# Altium footprint library TSOP54.PcbLib: 1 footprints
Each footprint in its own frame and in the unit in brackets; x right, y up, seen from the top. Pads: shape width x height; smd on the part's side, far side on the other; paste and mask are expansions set on the pad; w line width, h text height; cw(c..) or ccw(c..) is an arc to the next point about the centre after c.
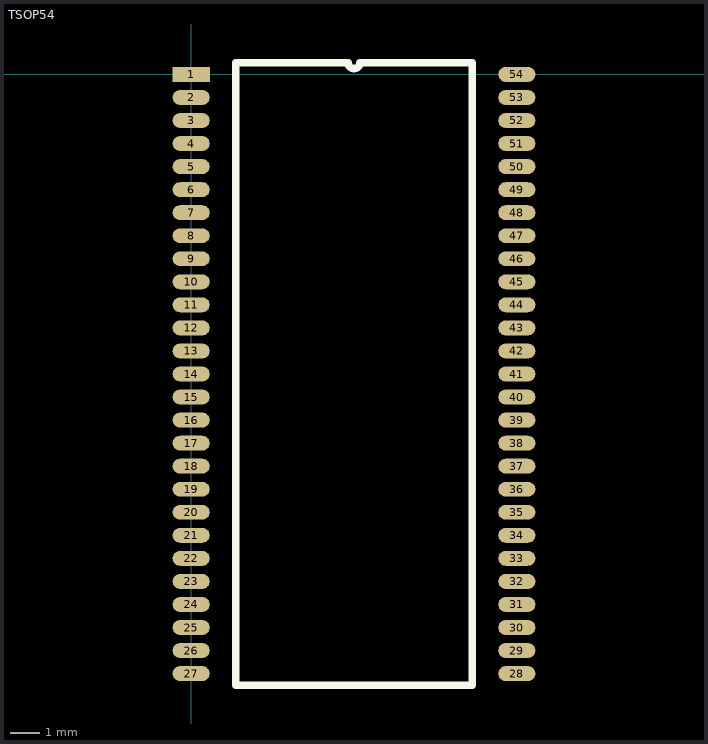
[diagram p0: the footprint, top view; thin cyan lines are the x and y axes]

## TSOP54 [mil]
pads (54):
  rect 50x20 smd: 1(0,0)
  oval 50x20 smd: 2(0,-31) 3(0,-62) 4(0,-93) 5(0,-124) 6(0,-155) 7(0,-186) 8(0,-217) 9(0,-248) 10(0,-279) 11(0,-310) 12(0,-341) 13(0,-372) 14(0,-403) 15(0,-434) 16(0,-465) 17(0,-496) 18(0,-527) 19(0,-558) 20(0,-589) 21(0,-620) 22(0,-651) 23(0,-682) 24(0,-713) 25(0,-744) 26(0,-775) 27(0,-806) 28(438,-806) 29(438,-775) 30(438,-744) 31(438,-713) 32(438,-682) 33(438,-651) 34(438,-620) 35(438,-589) 36(438,-558) 37(438,-527) 38(438,-496) 39(438,-465) 40(438,-434) 41(438,-403) 42(438,-372) 43(438,-341) 44(438,-310) 45(438,-279) 46(438,-248) 47(438,-217) 48(438,-186) 49(438,-155) 50(438,-124) 51(438,-93) 52(438,-62) 53(438,-31) 54(438,0)
Top Overlay:
  lines w10: 60,-821.5 60,15.5 211.25,15.5 ccw(c219,15.5) 226.75,15.5 378,15.5 378,-821.5 60,-821.5